# Altium footprint library a4988_stepDriver.PCBLIB: 1 footprints
Each footprint in its own frame and in the unit in brackets; x right, y up, seen from the top. Pads: shape width x height; smd on the part's side, far side on the other; paste and mask are expansions set on the pad; w line width, h text height; cw(c..) or ccw(c..) is an arc to the next point about the centre after c.
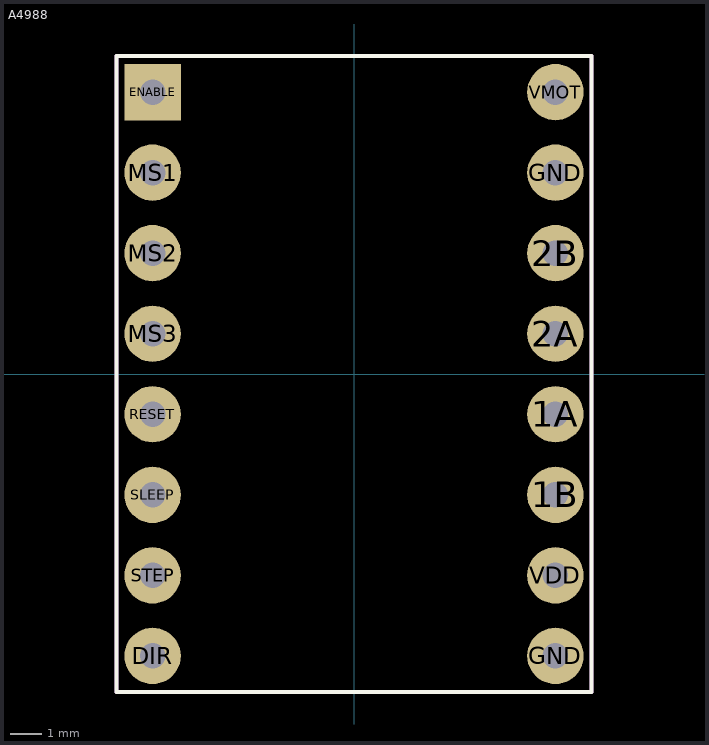
[diagram p0: the footprint, top view; thin cyan lines are the x and y axes]

## A4988 [mil]
pads (16):
  round 70 / inner round 60 / far side round 70 hole 31.5: 1A(250,-50) 1B(250,-150) 2A(250,50) 2B(250,150) DIR(-250,-350) GND(250,-350) GND(250,250) MS1(-250,250) MS2(-250,150) MS3(-250,50) RESET(-250,-50) SLEEP(-250,-150) STEP(-250,-250) VDD(250,-250) VMOT(250,350)
  rect 70x70 / inner rect 60x60 / far side rect 70x70 hole 31.5: ENABLE(-250,350)
Top Overlay:
  lines w5: -295,-395 -295,395 295,395 295,-395 -295,-395
Dimension:
  lines w5: -295,-395 -295,395 295,395 295,-395 -295,-395
3D body "User Library-A4988 RED.STEP": height 393.7, standoff -237.8, extent -300,-400 300,400